# EAGLE library part MKKDS12 (library con-phoenix-508)
PHOENIX
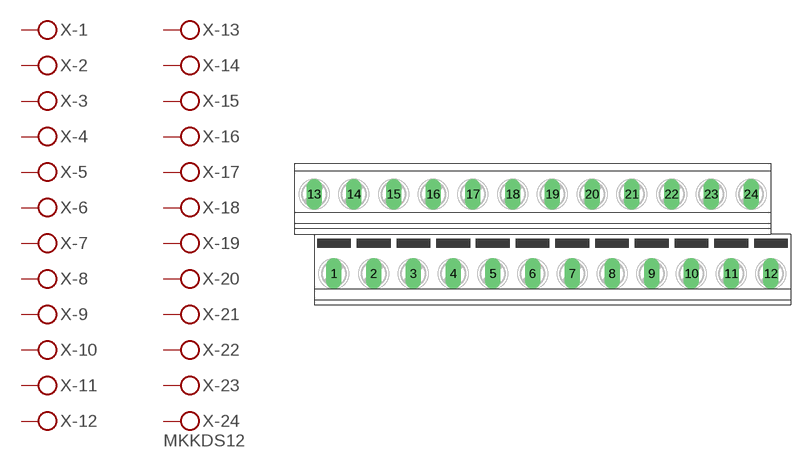
[diagram p13: symbol with the pads of MKKDS12; footprint MKKDS12]

Designator prefix X; gates -1=KL -2=KL -3=KL -4=KL -5=KL -6=KL -7=KL -8=KL -9=KL -10=KL -11=KL -12=KL -13=KL -14=KL -15=KL -16=KL -17=KL -18=KL -19=KL -20=KL -21=KL -22=KL -23=KL -24=KLV

## MKKDS12 (OC_FARNELL: unknown; OC_NEWARK: unknown)  [MKKDS12]
1  -1:KL  pas
2  -2:KL  pas
3  -3:KL  pas
4  -4:KL  pas
5  -5:KL  pas
6  -6:KL  pas
7  -7:KL  pas
8  -8:KL  pas
9  -9:KL  pas
10  -10:KL  pas
11  -11:KL  pas
12  -12:KL  pas
13  -13:KL  pas
14  -14:KL  pas
15  -15:KL  pas
16  -16:KL  pas
17  -17:KL  pas
18  -18:KL  pas
19  -19:KL  pas
20  -20:KL  pas
21  -21:KL  pas
22  -22:KL  pas
23  -23:KL  pas
24  -24:KL  pas

## Footprint MKKDS12 (pad centres in mm)
PHOENIX MKKDSN 1,5/ 8-5,08 Source: http://eshop.phoenixcontact.com .. 1726202.pdf
drill 1.321 long: 1 -26.67,-4.445; 2 -21.59,-4.445; 3 -16.51,-4.445; 4 -11.43,-4.445; 5 -6.35,-4.445; 6 -1.27,-4.445; 7 3.81,-4.445; 8 8.89,-4.445; 9 13.97,-4.445; 10 19.05,-4.445; 11 24.13,-4.445; 12 29.21,-4.445; 13 -29.21,5.715; 14 -24.13,5.715; 15 -19.05,5.715; 16 -13.97,5.715; 17 -8.89,5.715; 18 -3.81,5.715; 19 1.27,5.715; 20 6.35,5.715; 21 11.43,5.715; 22 16.51,5.715; 23 21.59,5.715; 24 26.67,5.715